# Altium footprint library Project_Oshinoko.PcbLib: 202 footprints (part 12 of 13)
Each footprint in its own frame and in the unit in brackets; x right, y up, seen from the top. Pads: shape width x height; smd on the part's side, far side on the other; paste and mask are expansions set on the pad; w line width, h text height; cw(c..) or ccw(c..) is an arc to the next point about the centre after c.
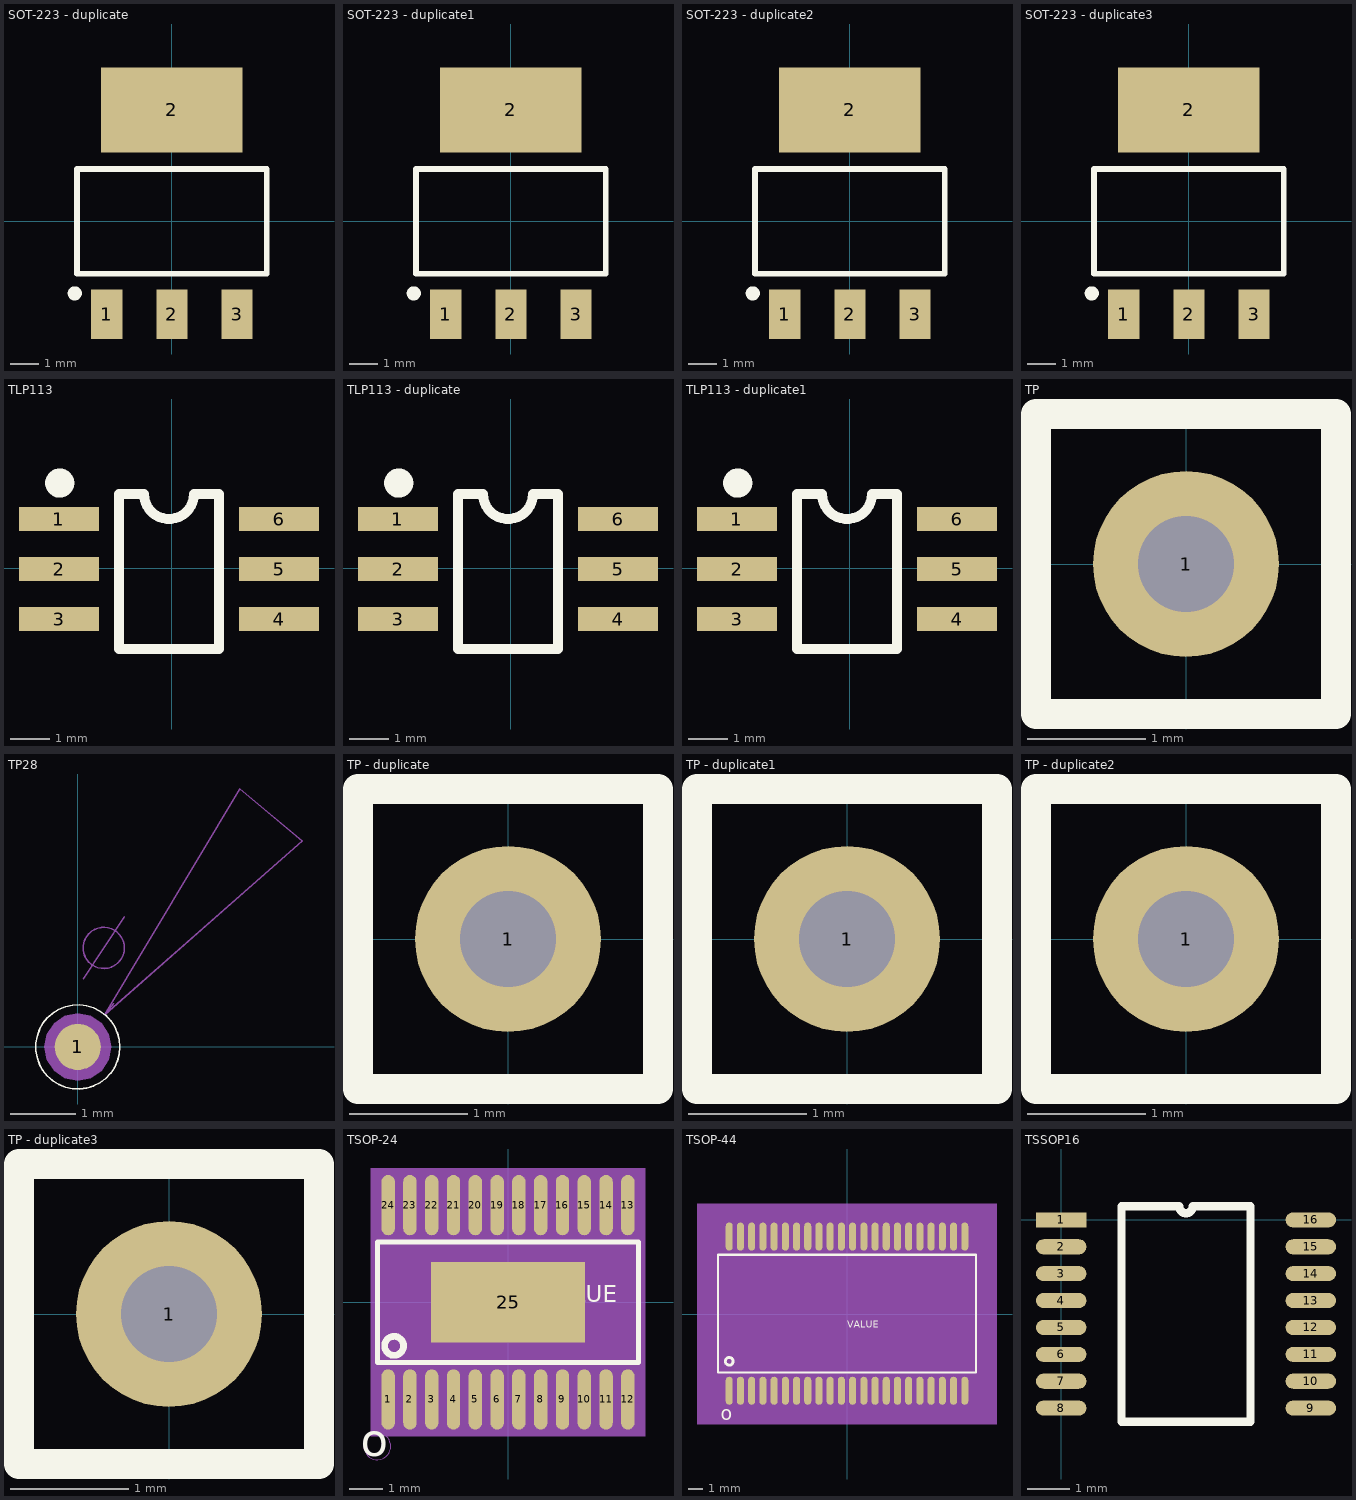
[diagram p11: the footprints below, top view; thin cyan lines are the x and y axes]

## SOT-223 - duplicate [mm]
pads (4):
  rect 1.1x1.75 smd: 1(-2.3,-3.275) 2(0,-3.275) 3(2.3,-3.275)
  rect 5x3 smd: 2(0,3.937)
Top Overlay:
  circle w0.25: c-3.427,-2.54 r0.125
  lines w0.2: -3.35,-1.85 -3.35,1.85 3.35,1.85 3.35,-1.85 -3.35,-1.85

## SOT-223 - duplicate1 [mm]
pads (4):
  rect 1.1x1.75 smd: 1(-2.3,-3.275) 2(0,-3.275) 3(2.3,-3.275)
  rect 5x3 smd: 2(0,3.937)
Top Overlay:
  circle w0.25: c-3.427,-2.54 r0.125
  lines w0.2: -3.35,-1.85 -3.35,1.85 3.35,1.85 3.35,-1.85 -3.35,-1.85

## SOT-223 - duplicate2 [mm]
pads (4):
  rect 1.1x1.75 smd: 1(-2.3,-3.275) 2(0,-3.275) 3(2.3,-3.275)
  rect 5x3 smd: 2(0,3.937)
Top Overlay:
  circle w0.25: c-3.427,-2.54 r0.125
  lines w0.2: -3.35,-1.85 -3.35,1.85 3.35,1.85 3.35,-1.85 -3.35,-1.85

## SOT-223 - duplicate3 [mm]
pads (4):
  rect 1.1x1.75 smd: 1(-2.3,-3.275) 2(0,-3.275) 3(2.3,-3.275)
  rect 5x3 smd: 2(0,3.937)
Top Overlay:
  circle w0.25: c-3.427,-2.54 r0.125
  lines w0.2: -3.35,-1.85 3.35,-1.85 3.35,1.85 -3.35,1.85 -3.35,-1.85

## TLP113 [mil]
pads (6):
  rect 80x24 smd: 1(-112.78,49.02) 2(-112.78,-0.98) 3(-112.78,-50.98) 4(107.22,-50.98) 5(107.22,-0.98) 6(107.22,49.02)
Top Overlay:
  circle w15: c-112.07,85 r7.07
  lines w10: -52.78,-80.98 47.22,-80.98 47.22,74.02 22.22,74.02 cw(c-2.78,74.02) -27.78,74.02 -52.78,74.02 -52.78,-80.98

## TLP113 - duplicate [mil]
pads (6):
  rect 80x24 smd: 1(-112.78,49.02) 2(-112.78,-0.98) 3(-112.78,-50.98) 4(107.22,-50.98) 5(107.22,-0.98) 6(107.22,49.02)
Top Overlay:
  circle w15: c-112.07,85 r7.07
  lines w10: -52.78,-80.98 47.22,-80.98 47.22,74.02 22.22,74.02 cw(c-2.78,74.02) -27.78,74.02 -52.78,74.02 -52.78,-80.98

## TLP113 - duplicate1 [mil]
pads (6):
  rect 80x24 smd: 1(-112.78,49.02) 2(-112.78,-0.98) 3(-112.78,-50.98) 4(107.22,-50.98) 5(107.22,-0.98) 6(107.22,49.02)
Top Overlay:
  circle w15: c-112.07,85 r7.07
  lines w10: -52.78,-80.98 47.22,-80.98 47.22,74.02 22.22,74.02 cw(c-2.78,74.02) -27.78,74.02 -52.78,74.02 -52.78,-80.98

## TP [mil]
pads (1):
  round 62 hole 32: 1(0,0)
Top Overlay:
  lines w10: 50,-40 50,50 -50,50 -50,-50 50,-50 50,-20

## TP28 [mil] "TP28"
pads (1):
  round 28 smd: 1(0,0)
Top Overlay:
  circle w1: c0,0 r25.5
Mechanical 8:
  text "1" at 0,-10 h25
Mechanical 9:
  circle w1: c15.75,60 r12.5
  lines w1: 3.25,41.25 28.25,78.75 ; 21.87,26.25 16.32,19.59 ; 16.32,19.59 136.04,124.81 98.25,156.31 16.32,19.59
  text "1.3" at 34.25,47.5 h25
Mechanical 10:
  pour cut-out: 0,20.39 -7.8,18.84 -14.42,14.42 -18.84,7.8 -20.39,0 -18.84,-7.8 -14.42,-14.42 -7.8,-18.84 0,-20.39 7.8,-18.84 14.42,-14.42 18.84,-7.8 20.39,0 18.84,7.8 14.42,14.42 7.8,18.84

## TP - duplicate [mil]
pads (1):
  round 62 hole 32: 1(0,0)
Top Overlay:
  lines w10: 50,-40 50,50 -50,50 -50,-50 50,-50 50,-20

## TP - duplicate1 [mil]
pads (1):
  round 62 hole 32: 1(0,0)
Top Overlay:
  lines w10: 50,-40 50,50 -50,50 -50,-50 50,-50 50,-20

## TP - duplicate2 [mil]
pads (1):
  round 62 hole 32: 1(0,0)
Top Overlay:
  lines w10: 50,-40 50,50 -50,50 -50,-50 50,-50 50,-20

## TP - duplicate3 [mil]
pads (1):
  round 62 hole 32: 1(0,0)
Top Overlay:
  lines w10: 50,-40 50,50 -50,50 -50,-50 50,-50 50,-20

## TSOP-24 [mil] "TSOP-24"
pads (25):
  oval 15.75x70.87 smd: 1(-140.8,-114.17) 2(-115.2,-114.17) 3(-89.6,-114.17) 4(-64,-114.17) 5(-38.4,-114.17) 6(-12.8,-114.17) 7(12.8,-114.17) 8(38.4,-114.17) 9(64,-114.17) 10(89.6,-114.17) 11(115.2,-114.17) 12(140.8,-114.17) 13(140.8,114.17) 14(115.2,114.17) 15(89.6,114.17) 16(64,114.17) 17(38.4,114.17) 18(12.8,114.17) 19(-12.8,114.17) 20(-38.4,114.17) 21(-64,114.17) 22(-89.6,114.17) 23(-115.2,114.17) 24(-140.8,114.17)
  rect 181.1x94.49 smd: 25(0,0)
Top Overlay:
  circle w7.87: c-133.86,-51.18 r11.14
  lines w5.91: -153.54,-70.87 -153.54,70.87 153.54,70.87 153.54,-70.87 -153.54,-70.87
  text "VALUE" at 39.38,0 h19.69
  text "o" at -173.23,-181.1 h38.58
  text ".Designator" at 63.2,199.36 h32
Mechanical 8:
  text "20" at -22.65,114.17 h19.69
  text "17" at 54.15,114.17 h19.69
  text "6" at -4.92,-114.17 h19.69
  text "4" at -56.12,-114.17 h19.69
  text "5" at -30.52,-114.17 h19.69
  text "19" at 2.95,114.17 h19.69
  text "8" at 46.28,-114.17 h19.69
  text "1" at -132.92,-114.17 h19.69
  text "7" at 20.68,-114.17 h19.69
  text "9" at 71.88,-114.17 h19.69
  text "12" at 156.55,-114.17 h19.69
  text "13" at 156.55,114.17 h19.69
  text "24" at -125.05,114.17 h19.69
  text "25" at 15.75,0 h19.69
  text "21" at -48.25,114.17 h19.69
  text "22" at -73.85,114.17 h19.69
  text "23" at -99.45,114.17 h19.69
  text "14" at 130.95,114.17 h19.69
  text "15" at 105.35,114.17 h19.69
  text "16" at 79.75,114.17 h19.69
  text "2" at -107.32,-114.17 h19.69
  text "3" at -81.72,-114.17 h19.69
  text "10" at 105.35,-114.17 h19.69
  text "11" at 130.95,-114.17 h19.69
  text "18" at 28.55,114.17 h19.69
Mechanical 10:
  region: -161.42,-157.48 161.42,-157.48 161.42,157.48 -161.42,157.48
Mechanical 11:
  circle w1: c-153.54,-169.29 r15.74
  lines w1: -153.54,-125.98 -153.54,125.98 153.54,125.98 153.54,-125.98 -153.54,-125.98

## TSOP-44 [mm] "TSOP-44"
pads (44):
  oval 0.5x2 smd: 1(-8.4,-5.475) 2(-7.6,-5.475) 3(-6.8,-5.475) 4(-6,-5.475) 5(-5.2,-5.475) 6(-4.4,-5.475) 7(-3.6,-5.475) 8(-2.8,-5.475) 9(-2,-5.475) 10(-1.2,-5.475) 11(-0.4,-5.475) 12(0.4,-5.475) 13(1.2,-5.475) 14(2,-5.475) 15(2.8,-5.475) 16(3.6,-5.475) 17(4.4,-5.475) 18(5.2,-5.475) 19(6,-5.475) 20(6.8,-5.475) 21(7.6,-5.475) 22(8.4,-5.475) 23(8.4,5.525) 24(7.6,5.525) 25(6.8,5.525) 26(6,5.525) 27(5.2,5.525) 28(4.4,5.525) 29(3.6,5.525) 30(2.8,5.525) 31(2,5.525) 32(1.2,5.525) 33(0.4,5.525) 34(-0.4,5.525) 35(-1.2,5.525) 36(-2,5.525) 37(-2.8,5.525) 38(-3.6,5.525) 39(-4.4,5.525) 40(-5.2,5.525) 41(-6,5.525) 42(-6.8,5.525) 43(-7.6,5.525) 44(-8.4,5.525)
Top Overlay:
  circle w0.2: c-8.4,-3.375 r0.28
  lines w0.15: -9.2,-4.175 -9.2,-3.275 -9.2,4.225 9.2,4.225 9.2,-4.175 -9.2,-4.175
  text "VALUE" at 0,-0.975 h0.5
  text "o" at -9,-7.575 h0.98
  text ".Designator" at -9.779,-2.159 h0.81
Mechanical 8:
  text "17" at 4.4,-5.875 h0.5
  text "41" at -6,5.125 h0.5
  text "28" at 4.4,5.125 h0.5
  text "12" at 0.4,-5.875 h0.5
  text "34" at -0.4,5.125 h0.5
  text "39" at -4.4,5.125 h0.5
  text "40" at -5.2,5.125 h0.5
  text "38" at -3.6,5.125 h0.5
  text "37" at -2.8,5.125 h0.5
  text "36" at -2,5.125 h0.5
  text "35" at -1.2,5.125 h0.5
  text "32" at 1.2,5.125 h0.5
  text "31" at 2,5.125 h0.5
  text "30" at 2.8,5.125 h0.5
  text "29" at 3.6,5.125 h0.5
  text "16" at 3.6,-5.875 h0.5
  text "15" at 2.8,-5.875 h0.5
  text "14" at 2,-5.875 h0.5
  text "13" at 1.2,-5.875 h0.5
  text "10" at -1.2,-5.875 h0.5
  text "9" at -2,-5.675 h0.5
  text "8" at -2.8,-5.675 h0.5
  text "7" at -3.6,-5.675 h0.5
  text "6" at -4.4,-5.675 h0.5
  text "44" at -8.4,5.125 h0.5
  text "43" at -7.6,5.125 h0.5
  text "42" at -6.8,5.125 h0.5
  text "27" at 5.2,5.125 h0.5
  text "26" at 6,5.125 h0.5
  text "25" at 6.8,5.125 h0.5
  text "24" at 7.6,5.125 h0.5
  text "23" at 8.4,5.125 h0.5
  text "22" at 8.4,-5.875 h0.5
  text "21" at 7.6,-5.875 h0.5
  text "20" at 6.8,-5.875 h0.5
  text "19" at 6,-5.875 h0.5
  text "18" at 5.2,-5.875 h0.5
  text "5" at -5.2,-5.675 h0.5
  text "4" at -6,-5.675 h0.5
  text "3" at -6.8,-5.675 h0.5
  text "2" at -7.6,-5.675 h0.5
  text "1" at -8.4,-5.675 h0.5
  text "11" at -0.4,-5.875 h0.5
  text "33" at 0.4,5.125 h0.5
Mechanical 10:
  region: -10.7,-7.875 10.7,-7.875 10.7,7.875 -10.7,7.875
Mechanical 11:
  circle w0.025: c-8.5,-7.275 r0.36
  lines w0.025: -9.2,-6.475 -9.2,6.525 9.2,6.525 9.2,-6.475 -9.2,-6.475

## TSSOP16 [mm]
pads (16):
  rect 1.2x0.36 smd: 1(0,0)
  oval 1.2x0.36 smd: 2(0,-0.64) 3(0,-1.28) 4(0,-1.92) 5(0,-2.56) 6(0,-3.2) 7(0,-3.84) 8(0,-4.48) 9(5.94,-4.48) 10(5.94,-3.84) 11(5.94,-3.2) 12(5.94,-2.56) 13(5.94,-1.92) 14(5.94,-1.28) 15(5.94,-0.64) 16(5.94,0)
Top Overlay:
  lines w0.2: 1.435,-4.8 4.505,-4.8 4.505,0.32 3.13,0.32 cw(c2.97,0.32) 2.81,0.32 1.435,0.32 1.435,-4.8